# Altium footprint library CAPAE660X600N.PcbLib: 1 footprints
Each footprint in its own frame and in the unit in brackets; x right, y up, seen from the top. Pads: shape width x height; smd on the part's side, far side on the other; paste and mask are expansions set on the pad; w line width, h text height; cw(c..) or ccw(c..) is an arc to the next point about the centre after c.
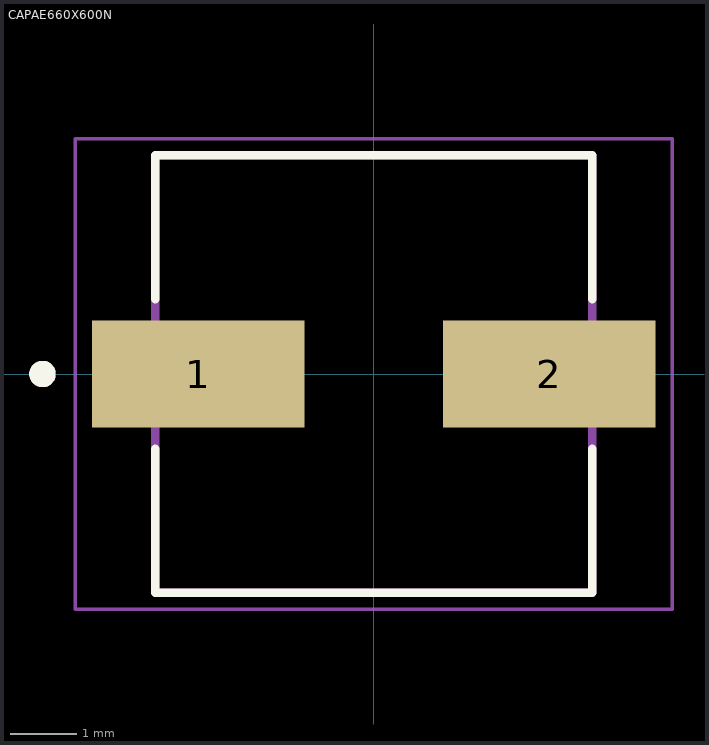
[diagram p0: the footprint, top view; thin cyan lines are the x and y axes]

## CAPAE660X600N [mm]
height 6
pads (2):
  rect 3.21x1.62 smd: 1(-2.65,0) 2(2.65,0)
Top Overlay:
  circle w0.2: c-5,0 r0.1
  lines w0.127: -3.3,-1.13 -3.3,-3.3 3.3,-3.3 3.3,-1.13 ; -3.3,1.13 -3.3,3.3 3.3,3.3 3.3,1.13
Mechanical 13:
  circle w0.2: c-5,0 r0.1
  lines w0.127: -3.3,-3.3 3.3,-3.3 3.3,3.3 -3.3,3.3 -3.3,-3.3
Mechanical 15:
  lines w0.05: -4.505,-3.55 -4.505,3.55 4.505,3.55 4.505,-3.55 -4.505,-3.55